# EAGLE library part MAX31855 (library nonolith)
MAX31855 thermocouple interface
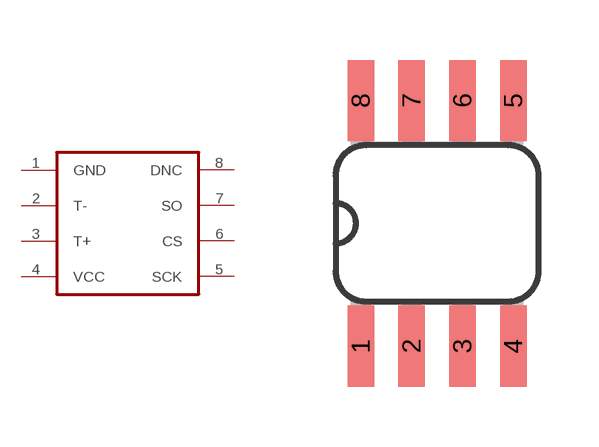
[diagram p20: symbol with the pads of SO-08; footprint SO-08]

Designator prefix -

## MAX31855  [SO-08]
1  GND
2  T-
3  T+
4  VCC
5  SCK
6  CS
7  SO
8  DNC

## Footprint SO-08 (pad centres in mm)
smd 0.66 x 2.032: 1 -1.905,-3.073; 2 -0.635,-3.073; 3 0.635,-3.073; 4 1.905,-3.073; 5 1.905,3.073; 6 0.635,3.073; 7 -0.635,3.073; 8 -1.905,3.073